# EAGLE library part BMD-300 (library CougsInSpace)
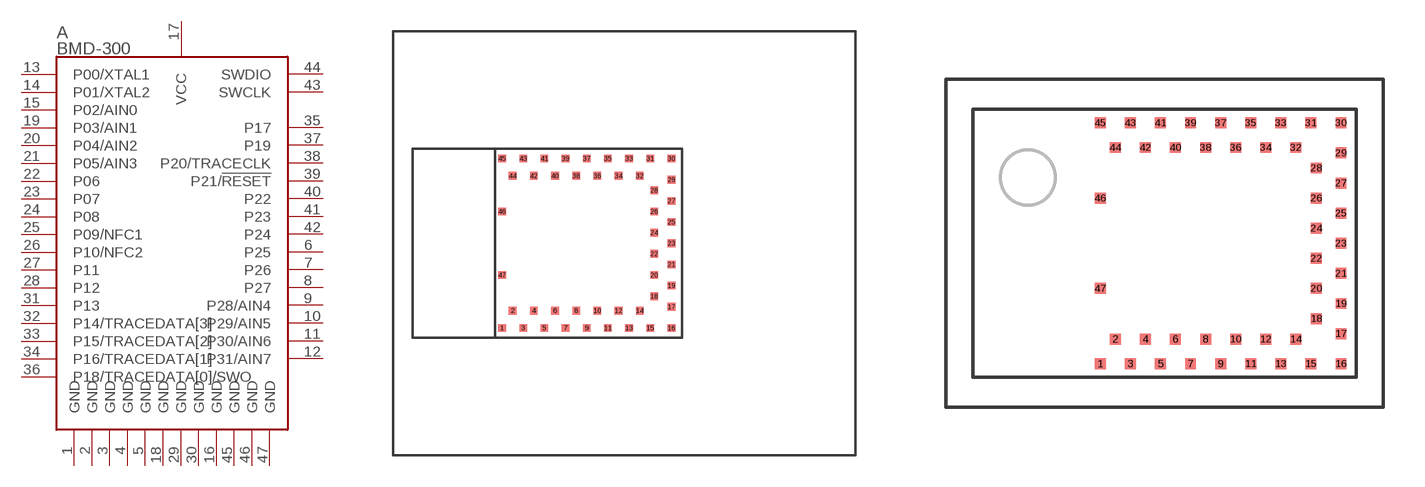
[diagram p6: symbol with the pads of BMD-300; footprints BMD-300, BMD-301]

Designator prefix A

## BMD-300ANTENNA_CHIP  [BMD-300]
1  GND  pwr
2  GND  pwr
3  GND  pwr
4  GND  pwr
5  GND  pwr
6  P25
7  P26
8  P27
9  P28/AIN4
10  P29/AIN5
11  P30/AIN6
12  P31/AIN7
13  P00/XTAL1
14  P01/XTAL2
15  P02/AIN0
16  GND  pwr
17  VCC  pwr
18  GND  pwr
19  P03/AIN1
20  P04/AIN2
21  P05/AIN3
22  P06
23  P07
24  P08
25  P09/NFC1
26  P10/NFC2
27  P11
28  P12
29  GND  pwr
30  GND  pwr
31  P13
32  P14/TRACEDATA[3]
33  P15/TRACEDATA[2]
34  P16/TRACEDATA[1]
35  P17
36  P18/TRACEDATA[0]/SWO
37  P19
38  P20/TRACECLK
39  P21/!RESET
40  P22
41  P23
42  P24
43  SWCLK
44  SWDIO
45  GND  pwr
46  GND  pwr
47  GND  pwr

## BMD-300ANTENNA_U.FL  [BMD-301]
Pads as for BMD-300

## Footprint BMD-300 (pad centres in mm)
smd 0.4 x 0.4: 1 -2.35,-4.4; 2 -1.8,-3.5; 3 -1.25,-4.4; 4 -0.7,-3.5; 5 -0.15,-4.4; 6 0.4,-3.5; 7 0.95,-4.4; 8 1.5,-3.5; 9 2.05,-4.4; 10 2.6,-3.5; 11 3.15,-4.4; 12 3.7,-3.5; 13 4.25,-4.4; 14 4.8,-3.5; 15 5.35,-4.4; 16 6.45,-4.4; 17 6.45,-3.3; 18 5.55,-2.75; 19 6.45,-2.2; 20 5.55,-1.65; 21 6.45,-1.1; 22 5.55,-0.55; 23 6.45,0; 24 5.55,0.55; 25 6.45,1.1; 26 5.55,1.65; 27 6.45,2.2; 28 5.55,2.75; 29 6.45,3.3; 30 6.45,4.4; 31 5.35,4.4; 32 4.8,3.5; 33 4.25,4.4; 34 3.7,3.5; 35 3.15,4.4; 36 2.6,3.5; 37 2.05,4.4; 38 1.5,3.5; 39 0.95,4.4; 40 0.4,3.5; 41 -0.15,4.4; 42 -0.7,3.5; 43 -1.25,4.4; 44 -1.8,3.5; 45 -2.35,4.4; 46 -2.35,1.65; 47 -2.35,-1.65

## Footprint BMD-301 (pad centres in mm)
smd 0.4 x 0.4: 1 -2.35,-4.4; 2 -1.8,-3.5; 3 -1.25,-4.4; 4 -0.7,-3.5; 5 -0.15,-4.4; 6 0.4,-3.5; 7 0.95,-4.4; 8 1.5,-3.5; 9 2.05,-4.4; 10 2.6,-3.5; 11 3.15,-4.4; 12 3.7,-3.5; 13 4.25,-4.4; 14 4.8,-3.5; 15 5.35,-4.4; 16 6.45,-4.4; 17 6.45,-3.3; 18 5.55,-2.75; 19 6.45,-2.2; 20 5.55,-1.65; 21 6.45,-1.1; 22 5.55,-0.55; 23 6.45,0; 24 5.55,0.55; 25 6.45,1.1; 26 5.55,1.65; 27 6.45,2.2; 28 5.55,2.75; 29 6.45,3.3; 30 6.45,4.4; 31 5.35,4.4; 32 4.8,3.5; 33 4.25,4.4; 34 3.7,3.5; 35 3.15,4.4; 36 2.6,3.5; 37 2.05,4.4; 38 1.5,3.5; 39 0.95,4.4; 40 0.4,3.5; 41 -0.15,4.4; 42 -0.7,3.5; 43 -1.25,4.4; 44 -1.8,3.5; 45 -2.35,4.4; 46 -2.35,1.65; 47 -2.35,-1.65